# EAGLE library part WE-RJ45_LAN_10/100_BASET_SMD_STDLP (library Wuerth_Elektronik_eiSos_Version_6-12)
WE-RJ45 LAN Transformer 10/100 BaseT SMD, STD LP with LED - RJ45 connector with integrated transformer common mode choke - 350 µH min.OCL with 8 mA bias - Extended temperature range from -40°C to +85°C available -- ADSL Modem -- Embedded PC -- LAN network applications -- Hub, Router, Switches
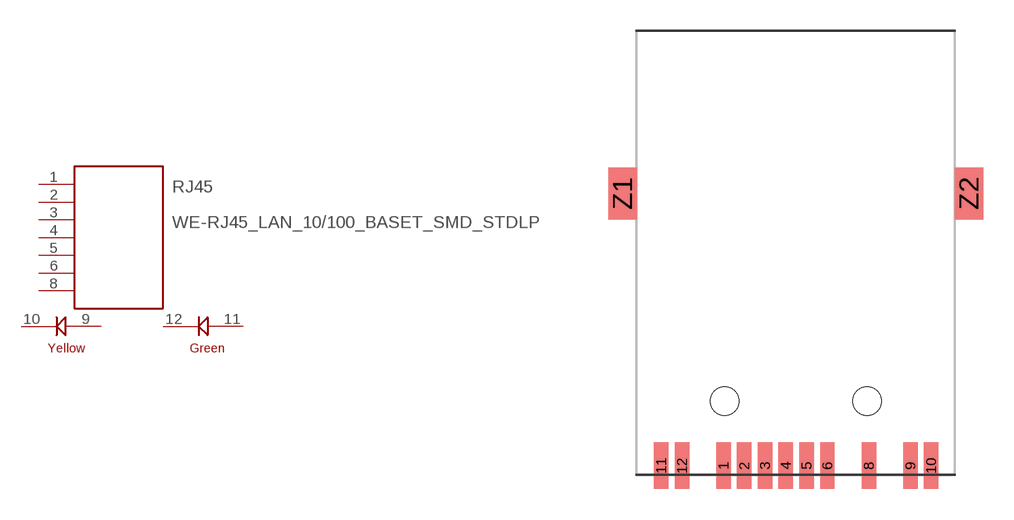
[diagram p109: symbol with the pads of WE-RJ45_LAN_10/100_BASET_7498011122; footprint WE-RJ45_LAN_10/100_BASET_7498011122]

Designator prefix RJ45

## WE-RJ45_LAN_10/100_BASET_SMD_STDLP_7498011122  [WE-RJ45_LAN_10/100_BASET_7498011122]
1  1  pas
2  2  pas
3  3  pas
4  4  pas
5  5  pas
6  6  pas
8  7  pas
9  11  pas
10  12  pas
11  13  pas
12  14  pas

## Footprint WE-RJ45_LAN_10/100_BASET_7498011122 (pad centres in mm)
WE-RJ45 LAN Transformer 10/100 BaseT SMD with LED
smd 0.71 x 2.29: 1 -3.545,-3.18; 2 -2.525,-3.18; 3 -1.505,-3.18; 4 -0.485,-3.18; 5 0.535,-3.18; 6 1.555,-3.18; 8 3.595,-3.18; 9 5.635,-3.18; 10 6.655,-3.18; 11 -6.605,-3.18; 12 -5.585,-3.18
smd 1.4 x 2.54: Z1 -8.51,10.2; Z2 8.51,10.2
hole 1.4 at -3.5,0
hole 1.4 at 3.5,0